# Altium footprint library PCB Library.PcbLib: 11 footprints
Each footprint in its own frame and in the unit in brackets; x right, y up, seen from the top. Pads: shape width x height; smd on the part's side, far side on the other; paste and mask are expansions set on the pad; w line width, h text height; cw(c..) or ccw(c..) is an arc to the next point about the centre after c.
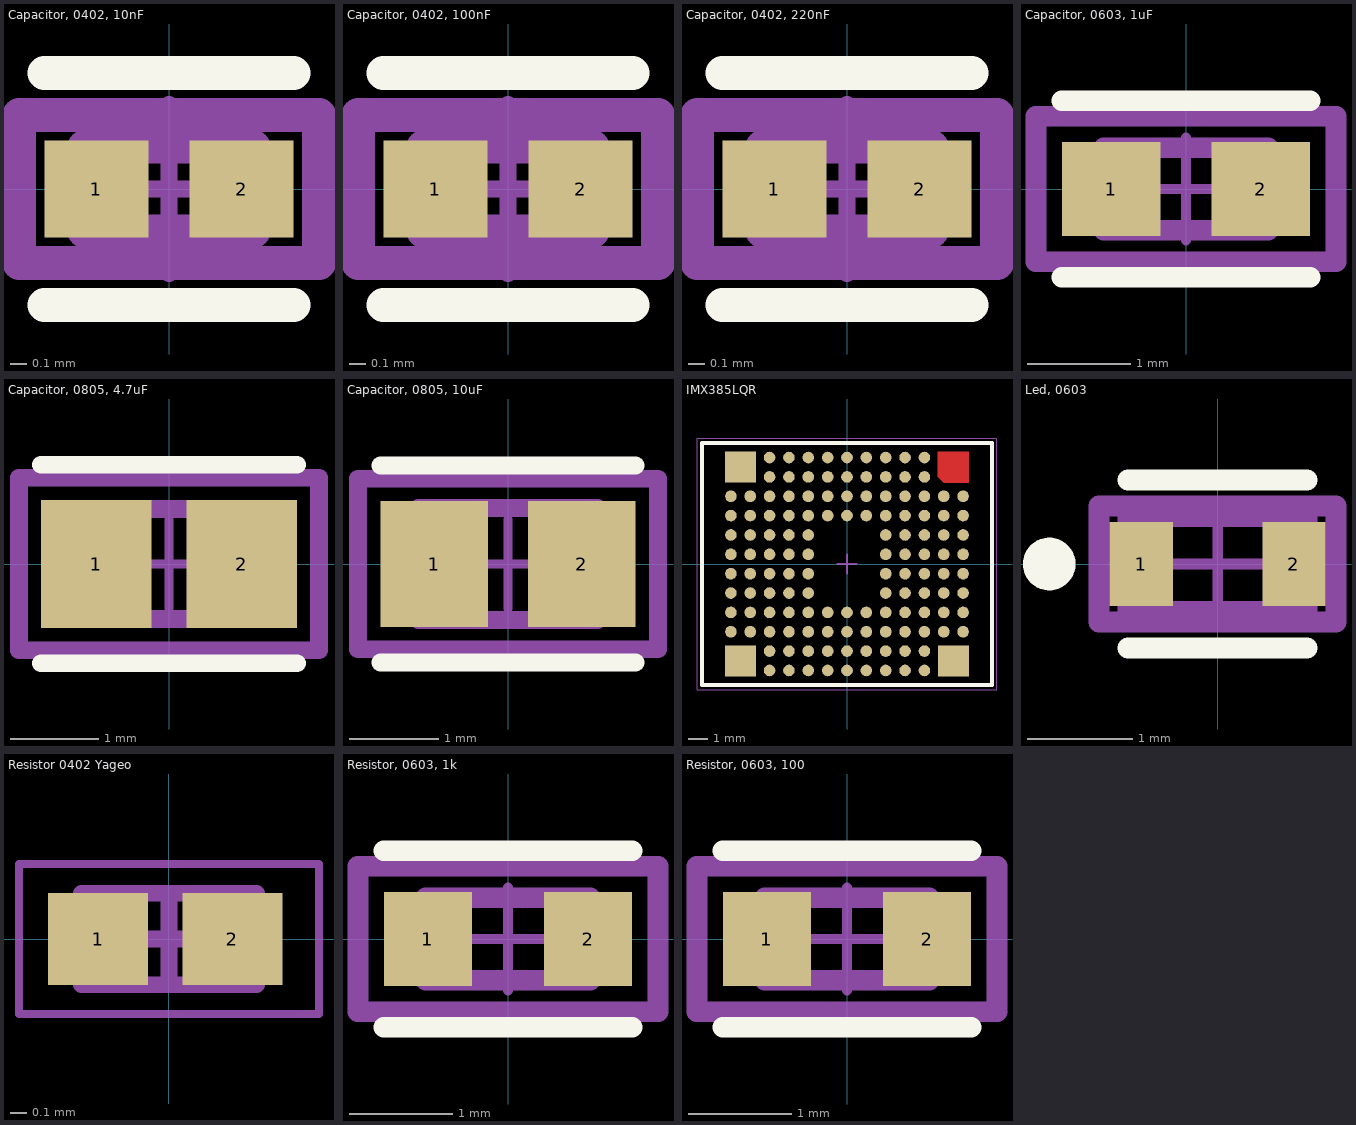
[diagram p0: the footprints below, top view; thin cyan lines are the x and y axes]

## Capacitor, 0402, 10nF [mm]
pads (2):
  rect 0.615x0.572 smd paste+0 mask+0: 1(-0.429,0) 2(0.429,0)
Top Overlay:
  lines w0.2: -0.736,-0.686 0.736,-0.686 ; -0.736,0.686 0.736,0.686
Top 3D Body:
  lines w0.2: -0.5,-0.25 0.5,-0.25 0.5,0.25 -0.5,0.25 -0.5,-0.25
Top Courtyard:
  lines w0.2: -0.886,-0.436 0.886,-0.436 0.886,0.436 -0.886,0.436 -0.886,-0.436
Top Assembly:
  lines w0.2: -0.886,-0.436 0.886,-0.436 0.886,0.436 -0.886,0.436 -0.886,-0.436
Top Component Center:
  lines w0.1: -0.5,0 0.5,0 -0.5,0 ; 0,-0.5 0,0.5 0,-0.5
3D body "Cap_Samsung_CL05B103KO5NNNC_eec.STEP": height 0.25, standoff 0, extent -0.886,-0.436 0.886,0.436

## Capacitor, 0402, 100nF [mm]
pads (2):
  rect 0.615x0.572 smd paste+0 mask+0: 1(-0.429,0) 2(0.429,0)
Top Overlay:
  lines w0.2: -0.736,-0.686 0.736,-0.686 ; -0.736,0.686 0.736,0.686
Top 3D Body:
  lines w0.2: -0.5,-0.25 0.5,-0.25 0.5,0.25 -0.5,0.25 -0.5,-0.25
Top Courtyard:
  lines w0.2: -0.886,-0.436 0.886,-0.436 0.886,0.436 -0.886,0.436 -0.886,-0.436
Top Assembly:
  lines w0.2: -0.886,-0.436 0.886,-0.436 0.886,0.436 -0.886,0.436 -0.886,-0.436
Top Component Center:
  lines w0.1: -0.5,0 0.5,0 -0.5,0 ; 0,-0.5 0,0.5 0,-0.5
3D body "Cap_Samsung_CL05B103KO5NNNC_eec.STEP": height 0.25, standoff 0, extent -0.886,-0.436 0.886,0.436

## Capacitor, 0402, 220nF [mm]
pads (2):
  rect 0.615x0.572 smd paste+0 mask+0: 1(-0.429,0) 2(0.429,0)
Top Overlay:
  lines w0.2: -0.736,-0.686 0.736,-0.686 ; -0.736,0.686 0.736,0.686
Top 3D Body:
  lines w0.2: -0.5,-0.25 0.5,-0.25 0.5,0.25 -0.5,0.25 -0.5,-0.25
Top Courtyard:
  lines w0.2: -0.886,-0.436 0.886,-0.436 0.886,0.436 -0.886,0.436 -0.886,-0.436
Top Assembly:
  lines w0.2: -0.886,-0.436 0.886,-0.436 0.886,0.436 -0.886,0.436 -0.886,-0.436
Top Component Center:
  lines w0.1: -0.5,0 0.5,0 -0.5,0 ; 0,-0.5 0,0.5 0,-0.5
3D body "Cap_Samsung_CL05B224KO5NNNC_eec.STEP": height 0.25, standoff 0, extent -0.886,-0.436 0.886,0.436

## Capacitor, 0603, 1uF [mm]
pads (2):
  rect 0.958x0.912 smd paste+0 mask+0: 1(-0.727,0) 2(0.727,0)
Top Overlay:
  lines w0.2: -1.206,-0.856 1.206,-0.856 ; -1.206,0.856 1.206,0.856
Top 3D Body:
  lines w0.2: -0.8,-0.4 0.8,-0.4 0.8,0.4 -0.8,0.4 -0.8,-0.4
Top Courtyard:
  lines w0.2: -1.456,-0.706 1.456,-0.706 1.456,0.706 -1.456,0.706 -1.456,-0.706
Top Assembly:
  lines w0.2: -1.456,-0.706 1.456,-0.706 1.456,0.706 -1.456,0.706 -1.456,-0.706
Top Component Center:
  lines w0.1: -0.5,0 0.5,0 ; 0,-0.5 0,0.5
3D body "Cap_Samsung_Electro-Mechanics_America_Inc_CL10B105KO8NNNC_eec.STEP": height 0.25, standoff 0, extent -1.456,-0.706 1.456,0.706

## Capacitor, 0805, 4.7uF [mm]
pads (2):
  rect 1.255x1.456 smd paste+0 mask+0: 1(-0.826,0) 2(0.826,0)
Top Overlay:
  lines w0.2: -1.453,-1.128 1.453,-1.128 ; -1.453,1.128 1.453,1.128
Top 3D Body:
  lines w0.2: -1,-0.625 1,-0.625 1,0.625 -1,0.625 -1,-0.625
Top Courtyard:
  lines w0.2: -1.703,-0.978 1.703,-0.978 1.703,0.978 -1.703,0.978 -1.703,-0.978
Top Assembly:
  lines w0.2: -1.703,-0.978 1.703,-0.978 1.703,0.978 -1.703,0.978 -1.703,-0.978
Top Component Center:
  lines w0.1: -0.5,0 0.5,0 ; 0,-0.5 0,0.5
3D body "Cap_Samsung_CL21B273KBANNNC_eec.STEP": height 0.25, standoff 0, extent -1.703,-0.978 1.703,0.978

## Capacitor, 0805, 10uF [mm]
pads (2):
  rect 1.206x1.408 smd paste+0 mask+0: 1(-0.826,0) 2(0.826,0)
Top Overlay:
  lines w0.2: -1.429,-1.104 1.429,-1.104 ; -1.429,1.104 1.429,1.104
Top 3D Body:
  lines w0.2: -1,-0.625 -1,0.625 1,0.625 1,-0.625 -1,-0.625
Top Courtyard:
  lines w0.2: -1.679,-0.954 -1.679,0.954 1.679,0.954 1.679,-0.954 -1.679,-0.954
Top Assembly:
  lines w0.2: -1.679,-0.954 -1.679,0.954 1.679,0.954 1.679,-0.954 -1.679,-0.954
Top Component Center:
  lines w0.1: -0.5,0 0.5,0 ; 0,-0.5 0,0.5
3D body "Cap_Samsung_Electro-Mechanics_America_Inc_CL21B106KOQNNNE_eec.STEP": height 0.25, standoff 0, extent -1.679,-0.954 1.679,0.954

## IMX385LQR [mm]
height 1.95
pads (132):
  round 0.6 smd: DKCKM(-6,-0.5) DLCKP(-6,0.5) DLOMA(-6,2.5) DLOMB(-4,1.5) DLOMC(-6,1.5) DLOMD(-5,0.5) DLOME(-5,-0.5) DLOMF(-5,-1.5) DLOMG(-6,-2.5) DLOPA(-5,2.5) DLOPB(-4,2.5) DLOPC(-5,1.5) DLOPD(-4,0.5) DLOPE(-4,-0.5) DLOPF(-4,-1.5) DLOPG(-5,-2.5) DLOPH(-6,-3.5) DLOPH(-5,-3.5) DMCKM(-2,4.5) DMCKP(-2,5.5) DMOMA(-1,4.5) DMOMB(-3,4.5) DMOMC(0,4.5) DMOMD(-4,4.5) DMOPA(-1,5.5) DMOPB(-3,5.5) DMOPC(0,5.5) DMOPD(-4,5.5) "GND N.C."(-6,-1.5) "GND N.C."(-4,-3.5) "GND N.C."(-4,-2.5) "GND N.C."(-3,-3.5) "GND N.C."(-3,-2.5) "GND N.C."(-2,-5.5) "GND N.C."(-2,-4.5) "GND N.C."(-2,-3.5) "GND N.C."(-2,-2.5) "GND N.C."(-1,-3.5) "GND N.C."(-1,-2.5) "GND N.C."(-1,2.5) "GND N.C."(0,-5.5) "GND N.C."(0,-4.5) "GND N.C."(2,-5.5) "GND N.C."(2,-4.5) "GND N.C."(3,-5.5) "GND N.C."(3,-4.5) "GND N.C."(3,-3.5) "GND N.C."(3,-2.5) "GND N.C."(3,-1.5) "GND N.C."(3,-0.5) "GND N.C."(4,-5.5) "GND N.C."(4,-4.5) "GND N.C."(4,-3.5) "GND N.C."(4,0.5) "GND N.C."(4,2.5) "GND N.C."(4,3.5) "GND N.C."(4,4.5) "GND N.C."(4,5.5) "GND N.C."(5,-3.5) "GND N.C."(5,0.5) INCK(0,2.5) N.C.(3,0.5) N.C.(3,1.5) N.C.(3,4.5) N.C.(4,-1.5) N.C.(5,1.5) N.C.(6,1.5) OMODE(2,-1.5) SCK(2,1.5) SDI(2,0.5) SDO(3,5.5) VBGR(4,-2.5) VCPFR(6,0.5) VCPST(4,-0.5) VDDHAN(6,-3.5) VDDHAN(6,-2.5) VDDHAN(6,-1.5) VDDHCP(6,-0.5) VDDHPX(6,2.5) VDDLCN(-3,-5.5) VDDLCN(-1,-5.5) VDDLCN(1,-5.5) VDDLIF(-3,2.5) VDDLIF(-2,2.5) VDDLPL1(-6,3.5) VDDLPL2(-4,-5.5) VDDLSC(0,-2.5) VDDLSC(1,-2.5) VDDLSC(1,2.5) VDDLSC(2,-2.5) VDDLSC(2,2.5) VDDLSC(3,2.5) VDDMIF(-3,-0.5) VDDMIF(-3,0.5) VDDMIF(-2,-0.5) VDDMIF(-2,0.5) VLOADLM(4,1.5) VRLFR(5,3.5) VRLST(6,3.5) VSSHAN(5,-2.5) VSSHAN(5,-1.5) VSSHCP(5,-0.5) VSSHPX(5,2.5) VSSLCN(-3,-4.5) VSSLCN(-1,-4.5) VSSLCN(1,-4.5) VSSLIF(-4,3.5) VSSLIF(-3,3.5) VSSLIF(-2,3.5) VSSLIF(-1,3.5) VSSLPL1(-5,3.5) VSSLPL2(-4,-4.5) VSSLSC(0,-3.5) VSSLSC(0,3.5) VSSLSC(1,-3.5) VSSLSC(2,-3.5) VSSLSC(2,3.5) VSSLSC(3,3.5) VSSMIF(-3,-1.5) VSSMIF(-3,1.5) VSSMIF(-2,-1.5) VSSMIF(-2,1.5) XCE(2,5.5) XCLR(1,3.5) XHS(1,4.5) XMASTER(2,4.5) XTRIG(2,-0.5) XVS(1,5.5)
  rect 1.6x1.6 smd: "GND N.C."(-5.5,-5) "GND N.C."(-5.5,5) "GND N.C."(5.5,-5)
  round 0.025 smd: "GND N.C."(5.5,5)
Top Layer:
  region: 4.7,5.8 6.3,5.8 6.3,4.2 5,4.2 4.7,4.5
Top Overlay:
  lines w0.2: -7.5,-6.25 7.5,-6.25 7.5,6.25 -7.5,6.25 -7.5,-6.25
Mechanical 13:
  lines w0.1: -7.5,-6.25 7.5,-6.25 7.5,6.25 -7.5,6.25 -7.5,-6.25
Mechanical 15:
  lines w0.05: -7.75,-6.5 7.75,-6.5 7.75,6.5 -7.75,6.5 -7.75,-6.5
  lines w0.1: -0.5,0 0.5,0 ; 0,-0.5 0,0.5
3D body: height 1.97, standoff 0.1, extent -4.25,-2.75 4.25,2.5
3D body: height 1.96, standoff 0.09, extent -6.25,-5 6.25,5
3D body: height 1.95, standoff 0.08, extent -7.5,-6.25 7.5,6.25

## Led, 0603 [mm]
pads (2):
  rect 0.6x0.8 smd paste+0 mask+0: 1(-0.725,0) 2(0.725,0)
Top Overlay:
  circle w0.25: c-1.6,0 r0.125
  lines w0.2: -0.85,-0.8 0.85,-0.8 ; -0.85,0.8 0.85,0.8
Top 3D Body:
  lines w0.2: -0.85,-0.45 0.85,-0.45 0.85,0.45 -0.85,0.45 -0.85,-0.45
Top Courtyard:
  lines w0.2: -1.125,-0.55 1.125,-0.55 1.125,0.55 -1.125,0.55 -1.125,-0.55
Top Assembly:
  lines w0.2: -1.125,-0.55 1.125,-0.55 1.125,0.55 -1.125,0.55 -1.125,-0.55
Top Component Center:
  lines w0.1: -0.5,0 0.5,0 ; 0,-0.5 0,0.5
3D body "Diode_Vishay_TLMO1000-GS08_eec.STEP": height 0.25, standoff 0, extent -1.125,-0.55 1.125,0.55

## Resistor 0402 Yageo [mm] "Chip Resistor, 2-Leads, Body 1,00x0,50mm, IPC Medium Density"
height 0.4
pads (2):
  rect 0.6x0.55 smd: 1(-0.425,0) 2(0.381,0)
Mechanical 13:
  lines w0.1: -0.525,-0.275 -0.525,0.275 0.525,0.275 0.525,-0.275 -0.525,-0.275
Mechanical 15:
  lines w0.05: -0.9,-0.45 -0.9,0.45 0.9,0.45 0.9,-0.45 -0.9,-0.45
  lines w0.1: -0.275,0 0.275,0 ; 0,-0.275 0,0.275
3D body "Resistor 0402 Yageo.step": height 0.4, standoff 0, extent -0.525,-0.275 0.525,0.275

## Resistor, 0603, 1k [mm]
pads (2):
  rect 0.859x0.912 smd paste+0 mask+0: 1(-0.777,0) 2(0.777,0)
Top Overlay:
  lines w0.2: -1.206,-0.856 1.206,-0.856 ; -1.206,0.856 1.206,0.856
Top 3D Body:
  lines w0.2: -0.8,-0.4 -0.8,0.4 0.8,0.4 0.8,-0.4 -0.8,-0.4
Top Courtyard:
  lines w0.2: -1.456,-0.706 -1.456,0.706 1.456,0.706 1.456,-0.706 -1.456,-0.706
Top Assembly:
  lines w0.2: -1.456,-0.706 -1.456,0.706 1.456,0.706 1.456,-0.706 -1.456,-0.706
Top Component Center:
  lines w0.1: -0.5,0 0.5,0 ; 0,-0.5 0,0.5
3D body "Res_Yageo_RC0603FR-073K3L_eec.STEP": height 0.25, standoff 0, extent -1.456,-0.706 1.456,0.706

## Resistor, 0603, 100 [mm]
pads (2):
  rect 0.859x0.912 smd paste+0 mask+0: 1(-0.777,0) 2(0.777,0)
Top Overlay:
  lines w0.2: -1.206,-0.856 1.206,-0.856 ; -1.206,0.856 1.206,0.856
Top 3D Body:
  lines w0.2: -0.8,-0.4 -0.8,0.4 0.8,0.4 0.8,-0.4 -0.8,-0.4
Top Courtyard:
  lines w0.2: -1.456,-0.706 -1.456,0.706 1.456,0.706 1.456,-0.706 -1.456,-0.706
Top Assembly:
  lines w0.2: -1.456,-0.706 -1.456,0.706 1.456,0.706 1.456,-0.706 -1.456,-0.706
Top Component Center:
  lines w0.1: -0.5,0 0.5,0 ; 0,-0.5 0,0.5
3D body "Res_Yageo_RC0603FR-073K3L_eec.STEP": height 0.25, standoff 0, extent -1.456,-0.706 1.456,0.706